# EAGLE library part 1586041-6 (library BMS Lbr)
TE VAL-U-LOK TPA 6 Pin Header
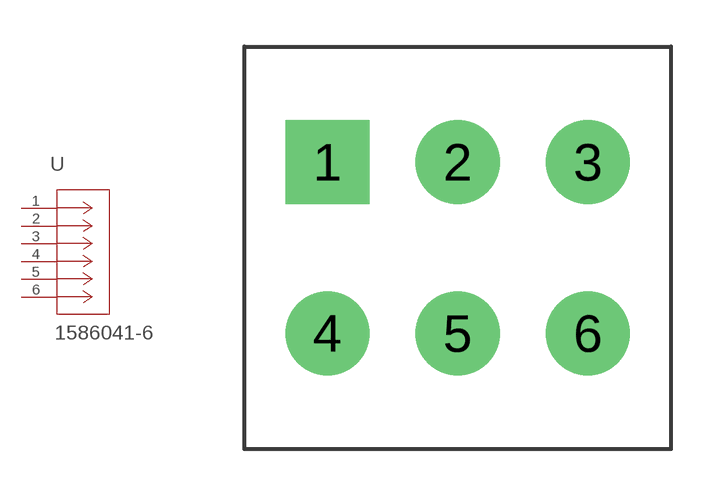
[diagram p10: symbol with the pads of 1586041-6; footprint 1586041-6]

Designator prefix -

## 1586041-6  [1586041-6]
1  1  pas
2  2  pas
3  3  pas
4  4  pas
5  5  pas
6  6  pas

## Footprint 1586041-6 (pad centres in mm)
drill 1.803 square: 1 -4.191,2.756
drill 1.803: 2 0,2.756; 3 4.191,2.756; 4 -4.191,-2.756; 5 0,-2.756; 6 4.191,-2.756